# Altium schematic symbol library BLM18BD252SN1J.SchLib: 1 symbol
Pins are listed as number, name and electrical type; pins without a type are passive.

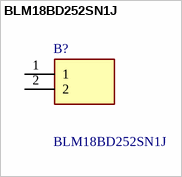
[diagram p0: symbol BLM18BD252SN1J]

## BLM18BD252SN1J
designator B?
BLM18_N1J Series EMI Suppression Filter 2500+/-25% at 100MHz 150mA @85; Manufacturer_Name: Murata Electronics; Geometry.Height: 0.95mm; Manufacturer_Part_Number: BLM18BD252SN1J; Mouser Part Number: *; Mouser Price/Stock: *; Arrow Part Number: *; Arrow Price/Stock: *; Datasheet Link: http://www.murata.com/~/media/webrenewal/support/library/catalog/products/emc/emifil/c31e.ashx?la=en-gb
footprint BLM18EG121SH1D
pins: 1, 2